# Altium integrated library 744774022_Altium_WE-PD2_rev20a.IntLib: 115 symbols (part 1 of 2)
Pins are listed as number, name and electrical type; pins without a type are passive.

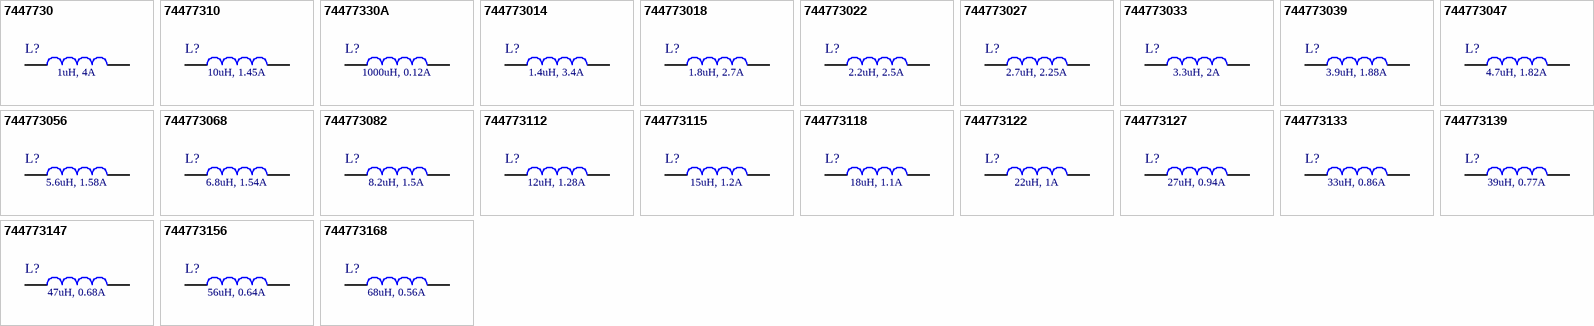
[diagram p0: symbols 7447730 to 744773168]

## 7447730
designator L?, comment 1uH, 4A
WE-PD2 SMT Power Inductor, size 4532, 1uH, 4A; Manufacturer: Wurth Elektronik; Manufacturer Part Number: 7447730; Self Resonant Frequency: 110MHz; DC Resistance max.: 0.049Ohm; DC Resistance typ.: 0.014Ohm; Saturation Current: 5.72A; ComponentLink1Description: Manufacturer; ComponentLink1URL: http://www.we-online.de; ComponentLink2Description: Datasheet; ComponentLink2URL: https://www.we-online.com/catalog/datasheet/7447730.pdf; Packaging: Tape and Reel; Published Date: April 2020; Rated Current: 4A; Operating Temperature: -40 to +125degC; Size: 4532; Inductance: 1uH; Mounting Technology: SMT
footprint WE-PD2_4532
pins: 1, 2

## 74477310
designator L?, comment 10uH, 1.45A
WE-PD2 SMT Power Inductor, size 4532, 10uH, 1.45A; Manufacturer: Wurth Elektronik; Manufacturer Part Number: 74477310; Self Resonant Frequency: 37MHz; DC Resistance max.: 0.182Ohm; DC Resistance typ.: 0.118Ohm; Saturation Current: 1.74A; ComponentLink1Description: Manufacturer; ComponentLink1URL: http://www.we-online.de; ComponentLink2Description: Datasheet; ComponentLink2URL: https://www.we-online.com/catalog/datasheet/74477310.pdf; Packaging: Tape and Reel; Published Date: April 2020; Rated Current: 1.45A; Operating Temperature: -40 to +125degC; Size: 4532; Inductance: 10uH; Mounting Technology: SMT
footprint WE-PD2_4532
pins: 1, 2

## 74477330A
designator L?, comment 1000uH, 0.12A
WE-PD2 SMT Power Inductor, size 4532, 1000uH, 0.12A; Manufacturer: Wurth Elektronik; Manufacturer Part Number: 74477330A; Self Resonant Frequency: 3.5MHz; DC Resistance max.: 15Ohm; DC Resistance typ.: 12.5Ohm; Saturation Current: 0.18A; ComponentLink1Description: Manufacturer; ComponentLink1URL: http://www.we-online.de; ComponentLink2Description: Datasheet; ComponentLink2URL: https://www.we-online.com/catalog/datasheet/74477330A.pdf; Packaging: Tape and Reel; Published Date: April 2020; Rated Current: 0.12A; Operating Temperature: -40 to +125degC; Size: 4532; Inductance: 1000uH; Mounting Technology: SMT
footprint WE-PD2_4532
pins: 1, 2

## 744773014
designator L?, comment 1.4uH, 3.4A
WE-PD2 SMT Power Inductor, size 4532, 1.4uH, 3.4A; Manufacturer: Wurth Elektronik; Manufacturer Part Number: 744773014; Self Resonant Frequency: 103MHz; DC Resistance max.: 0.056Ohm; DC Resistance typ.: 0.022Ohm; Saturation Current: 5.04A; ComponentLink1Description: Manufacturer; ComponentLink1URL: http://www.we-online.de; ComponentLink2Description: Datasheet; ComponentLink2URL: https://www.we-online.com/catalog/datasheet/744773014.pdf; Packaging: Tape and Reel; Published Date: April 2020; Rated Current: 3.4A; Operating Temperature: -40 to +125degC; Size: 4532; Inductance: 1.4uH; Mounting Technology: SMT
footprint WE-PD2_4532
pins: 1, 2

## 744773018
designator L?, comment 1.8uH, 2.7A
WE-PD2 SMT Power Inductor, size 4532, 1.8uH, 2.7A; Manufacturer: Wurth Elektronik; Manufacturer Part Number: 744773018; Self Resonant Frequency: 95MHz; DC Resistance max.: 0.064Ohm; DC Resistance typ.: 0.028Ohm; Saturation Current: 3.6A; ComponentLink1Description: Manufacturer; ComponentLink1URL: http://www.we-online.de; ComponentLink2Description: Datasheet; ComponentLink2URL: https://www.we-online.com/catalog/datasheet/744773018.pdf; Packaging: Tape and Reel; Published Date: April 2020; Rated Current: 2.7A; Operating Temperature: -40 to +125degC; Size: 4532; Inductance: 1.8uH; Mounting Technology: SMT
footprint WE-PD2_4532
pins: 1, 2

## 744773022
designator L?, comment 2.2uH, 2.5A
WE-PD2 SMT Power Inductor, size 4532, 2.2uH, 2.5A; Manufacturer: Wurth Elektronik; Manufacturer Part Number: 744773022; Self Resonant Frequency: 85MHz; DC Resistance max.: 0.071Ohm; DC Resistance typ.: 0.034Ohm; Saturation Current: 3.38A; ComponentLink1Description: Manufacturer; ComponentLink1URL: http://www.we-online.de; ComponentLink2Description: Datasheet; ComponentLink2URL: https://www.we-online.com/catalog/datasheet/744773022.pdf; Packaging: Tape and Reel; Published Date: April 2020; Rated Current: 2.5A; Operating Temperature: -40 to +125degC; Size: 4532; Inductance: 2.2uH; Mounting Technology: SMT
footprint WE-PD2_4532
pins: 1, 2

## 744773027
designator L?, comment 2.7uH, 2.25A
WE-PD2 SMT Power Inductor, size 4532, 2.7uH, 2.25A; Manufacturer: Wurth Elektronik; Manufacturer Part Number: 744773027; Self Resonant Frequency: 72MHz; DC Resistance max.: 0.079Ohm; DC Resistance typ.: 0.039Ohm; Saturation Current: 2.97A; ComponentLink1Description: Manufacturer; ComponentLink1URL: http://www.we-online.de; ComponentLink2Description: Datasheet; ComponentLink2URL: https://www.we-online.com/catalog/datasheet/744773027.pdf; Packaging: Tape and Reel; Published Date: April 2020; Rated Current: 2.25A; Operating Temperature: -40 to +125degC; Size: 4532; Inductance: 2.7uH; Mounting Technology: SMT
footprint WE-PD2_4532
pins: 1, 2

## 744773033
designator L?, comment 3.3uH, 2A
WE-PD2 SMT Power Inductor, size 4532, 3.3uH, 2A; Manufacturer: Wurth Elektronik; Manufacturer Part Number: 744773033; Self Resonant Frequency: 65MHz; DC Resistance max.: 0.086Ohm; DC Resistance typ.: 0.041Ohm; Saturation Current: 2.88A; ComponentLink1Description: Manufacturer; ComponentLink1URL: http://www.we-online.de; ComponentLink2Description: Datasheet; ComponentLink2URL: https://www.we-online.com/catalog/datasheet/744773033.pdf; Packaging: Tape and Reel; Published Date: April 2020; Rated Current: 2A; Operating Temperature: -40 to +125degC; Size: 4532; Inductance: 3.3uH; Mounting Technology: SMT
footprint WE-PD2_4532
pins: 1, 2

## 744773039
designator L?, comment 3.9uH, 1.88A
WE-PD2 SMT Power Inductor, size 4532, 3.9uH, 1.88A; Manufacturer: Wurth Elektronik; Manufacturer Part Number: 744773039; Self Resonant Frequency: 61MHz; DC Resistance max.: 0.094Ohm; DC Resistance typ.: 0.054Ohm; Saturation Current: 2.57A; ComponentLink1Description: Manufacturer; ComponentLink1URL: http://www.we-online.de; ComponentLink2Description: Datasheet; ComponentLink2URL: https://www.we-online.com/catalog/datasheet/744773039.pdf; Packaging: Tape and Reel; Published Date: April 2020; Rated Current: 1.88A; Operating Temperature: -40 to +125degC; Size: 4532; Inductance: 3.9uH; Mounting Technology: SMT
footprint WE-PD2_4532
pins: 1, 2

## 744773047
designator L?, comment 4.7uH, 1.82A
WE-PD2 SMT Power Inductor, size 4532, 4.7uH, 1.82A; Manufacturer: Wurth Elektronik; Manufacturer Part Number: 744773047; Self Resonant Frequency: 50MHz; DC Resistance max.: 0.11Ohm; DC Resistance typ.: 0.059Ohm; Saturation Current: 2.46A; ComponentLink1Description: Manufacturer; ComponentLink1URL: http://www.we-online.de; ComponentLink2Description: Datasheet; ComponentLink2URL: https://www.we-online.com/catalog/datasheet/744773047.pdf; Packaging: Tape and Reel; Published Date: April 2020; Rated Current: 1.82A; Operating Temperature: -40 to +125degC; Size: 4532; Inductance: 4.7uH; Mounting Technology: SMT
footprint WE-PD2_4532
pins: 1, 2

## 744773056
designator L?, comment 5.6uH, 1.58A
WE-PD2 SMT Power Inductor, size 4532, 5.6uH, 1.58A; Manufacturer: Wurth Elektronik; Manufacturer Part Number: 744773056; Self Resonant Frequency: 48MHz; DC Resistance max.: 0.126Ohm; DC Resistance typ.: 0.069Ohm; Saturation Current: 2.43A; ComponentLink1Description: Manufacturer; ComponentLink1URL: http://www.we-online.de; ComponentLink2Description: Datasheet; ComponentLink2URL: https://www.we-online.com/catalog/datasheet/744773056.pdf; Packaging: Tape and Reel; Published Date: April 2020; Rated Current: 1.58A; Operating Temperature: -40 to +125degC; Size: 4532; Inductance: 5.6uH; Mounting Technology: SMT
footprint WE-PD2_4532
pins: 1, 2

## 744773068
designator L?, comment 6.8uH, 1.54A
WE-PD2 SMT Power Inductor, size 4532, 6.8uH, 1.54A; Manufacturer: Wurth Elektronik; Manufacturer Part Number: 744773068; Self Resonant Frequency: 41MHz; DC Resistance max.: 0.131Ohm; DC Resistance typ.: 0.076Ohm; Saturation Current: 2.1A; ComponentLink1Description: Manufacturer; ComponentLink1URL: http://www.we-online.de; ComponentLink2Description: Datasheet; ComponentLink2URL: https://www.we-online.com/catalog/datasheet/744773068.pdf; Packaging: Tape and Reel; Published Date: April 2020; Rated Current: 1.54A; Operating Temperature: -40 to +125degC; Size: 4532; Inductance: 6.8uH; Mounting Technology: SMT
footprint WE-PD2_4532
pins: 1, 2

## 744773082
designator L?, comment 8.2uH, 1.5A
WE-PD2 SMT Power Inductor, size 4532, 8.2uH, 1.5A; Manufacturer: Wurth Elektronik; Manufacturer Part Number: 744773082; Self Resonant Frequency: 38MHz; DC Resistance max.: 0.146Ohm; DC Resistance typ.: 0.116Ohm; Saturation Current: 1.8A; ComponentLink1Description: Manufacturer; ComponentLink1URL: http://www.we-online.de; ComponentLink2Description: Datasheet; ComponentLink2URL: https://www.we-online.com/catalog/datasheet/744773082.pdf; Packaging: Tape and Reel; Published Date: April 2020; Rated Current: 1.5A; Operating Temperature: -40 to +125degC; Size: 4532; Inductance: 8.2uH; Mounting Technology: SMT
footprint WE-PD2_4532
pins: 1, 2

## 744773112
designator L?, comment 12uH, 1.28A
WE-PD2 SMT Power Inductor, size 4532, 12uH, 1.28A; Manufacturer: Wurth Elektronik; Manufacturer Part Number: 744773112; Self Resonant Frequency: 32MHz; DC Resistance max.: 0.21Ohm; DC Resistance typ.: 0.156Ohm; Saturation Current: 1.62A; ComponentLink1Description: Manufacturer; ComponentLink1URL: http://www.we-online.de; ComponentLink2Description: Datasheet; ComponentLink2URL: https://www.we-online.com/catalog/datasheet/744773112.pdf; Packaging: Tape and Reel; Published Date: April 2020; Rated Current: 1.28A; Operating Temperature: -40 to +125degC; Size: 4532; Inductance: 12uH; Mounting Technology: SMT
footprint WE-PD2_4532
pins: 1, 2

## 744773115
designator L?, comment 15uH, 1.2A
WE-PD2 SMT Power Inductor, size 4532, 15uH, 1.2A; Manufacturer: Wurth Elektronik; Manufacturer Part Number: 744773115; Self Resonant Frequency: 26MHz; DC Resistance max.: 0.235Ohm; DC Resistance typ.: 0.204Ohm; Saturation Current: 1.46A; ComponentLink1Description: Manufacturer; ComponentLink1URL: http://www.we-online.de; ComponentLink2Description: Datasheet; ComponentLink2URL: https://www.we-online.com/catalog/datasheet/744773115.pdf; Packaging: Tape and Reel; Published Date: April 2020; Rated Current: 1.2A; Operating Temperature: -40 to +125degC; Size: 4532; Inductance: 15uH; Mounting Technology: SMT
footprint WE-PD2_4532
pins: 1, 2

## 744773118
designator L?, comment 18uH, 1.1A
WE-PD2 SMT Power Inductor, size 4532, 18uH, 1.1A; Manufacturer: Wurth Elektronik; Manufacturer Part Number: 744773118; Self Resonant Frequency: 23MHz; DC Resistance max.: 0.338Ohm; DC Resistance typ.: 0.225Ohm; Saturation Current: 1.29A; ComponentLink1Description: Manufacturer; ComponentLink1URL: http://www.we-online.de; ComponentLink2Description: Datasheet; ComponentLink2URL: https://www.we-online.com/catalog/datasheet/744773118.pdf; Packaging: Tape and Reel; Published Date: April 2020; Rated Current: 1.1A; Operating Temperature: -40 to +125degC; Size: 4532; Inductance: 18uH; Mounting Technology: SMT
footprint WE-PD2_4532
pins: 1, 2

## 744773122
designator L?, comment 22uH, 1A
WE-PD2 SMT Power Inductor, size 4532, 22uH, 1A; Manufacturer: Wurth Elektronik; Manufacturer Part Number: 744773122; Self Resonant Frequency: 20MHz; DC Resistance max.: 0.37Ohm; DC Resistance typ.: 0.261Ohm; Saturation Current: 1.22A; ComponentLink1Description: Manufacturer; ComponentLink1URL: http://www.we-online.de; ComponentLink2Description: Datasheet; ComponentLink2URL: https://www.we-online.com/catalog/datasheet/744773122.pdf; Packaging: Tape and Reel; Published Date: April 2020; Rated Current: 1A; Operating Temperature: -40 to +125degC; Size: 4532; Inductance: 22uH; Mounting Technology: SMT
footprint WE-PD2_4532
pins: 1, 2

## 744773127
designator L?, comment 27uH, 0.94A
WE-PD2 SMT Power Inductor, size 4532, 27uH, 0.94A; Manufacturer: Wurth Elektronik; Manufacturer Part Number: 744773127; Self Resonant Frequency: 21MHz; DC Resistance max.: 0.522Ohm; DC Resistance typ.: 0.328Ohm; Saturation Current: 1A; ComponentLink1Description: Manufacturer; ComponentLink1URL: http://www.we-online.de; ComponentLink2Description: Datasheet; ComponentLink2URL: https://www.we-online.com/catalog/datasheet/744773127.pdf; Packaging: Tape and Reel; Published Date: April 2020; Rated Current: 0.94A; Operating Temperature: -40 to +125degC; Size: 4532; Inductance: 27uH; Mounting Technology: SMT
footprint WE-PD2_4532
pins: 1, 2

## 744773133
designator L?, comment 33uH, 0.86A
WE-PD2 SMT Power Inductor, size 4532, 33uH, 0.86A; Manufacturer: Wurth Elektronik; Manufacturer Part Number: 744773133; Self Resonant Frequency: 20MHz; DC Resistance max.: 0.54Ohm; DC Resistance typ.: 0.37Ohm; Saturation Current: 0.9A; ComponentLink1Description: Manufacturer; ComponentLink1URL: http://www.we-online.de; ComponentLink2Description: Datasheet; ComponentLink2URL: https://www.we-online.com/catalog/datasheet/744773133.pdf; Packaging: Tape and Reel; Published Date: April 2020; Rated Current: 0.86A; Operating Temperature: -40 to +125degC; Size: 4532; Inductance: 33uH; Mounting Technology: SMT
footprint WE-PD2_4532
pins: 1, 2

## 744773139
designator L?, comment 39uH, 0.77A
WE-PD2 SMT Power Inductor, size 4532, 39uH, 0.77A; Manufacturer: Wurth Elektronik; Manufacturer Part Number: 744773139; Self Resonant Frequency: 15MHz; DC Resistance max.: 0.587Ohm; DC Resistance typ.: 0.418Ohm; Saturation Current: 0.87A; ComponentLink1Description: Manufacturer; ComponentLink1URL: http://www.we-online.de; ComponentLink2Description: Datasheet; ComponentLink2URL: https://www.we-online.com/catalog/datasheet/744773139.pdf; Packaging: Tape and Reel; Published Date: April 2020; Rated Current: 0.77A; Operating Temperature: -40 to +125degC; Size: 4532; Inductance: 39uH; Mounting Technology: SMT
footprint WE-PD2_4532
pins: 1, 2

## 744773147
designator L?, comment 47uH, 0.68A
WE-PD2 SMT Power Inductor, size 4532, 47uH, 0.68A; Manufacturer: Wurth Elektronik; Manufacturer Part Number: 744773147; Self Resonant Frequency: 17MHz; DC Resistance max.: 0.844Ohm; DC Resistance typ.: 0.523Ohm; Saturation Current: 0.77A; ComponentLink1Description: Manufacturer; ComponentLink1URL: http://www.we-online.de; ComponentLink2Description: Datasheet; ComponentLink2URL: https://www.we-online.com/catalog/datasheet/744773147.pdf; Packaging: Tape and Reel; Published Date: April 2020; Rated Current: 0.68A; Operating Temperature: -40 to +125degC; Size: 4532; Inductance: 47uH; Mounting Technology: SMT
footprint WE-PD2_4532
pins: 1, 2

## 744773156
designator L?, comment 56uH, 0.64A
WE-PD2 SMT Power Inductor, size 4532, 56uH, 0.64A; Manufacturer: Wurth Elektronik; Manufacturer Part Number: 744773156; Self Resonant Frequency: 16MHz; DC Resistance max.: 0.937Ohm; DC Resistance typ.: 0.714Ohm; Saturation Current: 0.75A; ComponentLink1Description: Manufacturer; ComponentLink1URL: http://www.we-online.de; ComponentLink2Description: Datasheet; ComponentLink2URL: https://www.we-online.com/catalog/datasheet/744773156.pdf; Packaging: Tape and Reel; Published Date: April 2020; Rated Current: 0.64A; Operating Temperature: -40 to +125degC; Size: 4532; Inductance: 56uH; Mounting Technology: SMT
footprint WE-PD2_4532
pins: 1, 2

## 744773168
designator L?, comment 68uH, 0.56A
WE-PD2 SMT Power Inductor, size 4532, 68uH, 0.56A; Manufacturer: Wurth Elektronik; Manufacturer Part Number: 744773168; Self Resonant Frequency: 13MHz; DC Resistance max.: 1.117Ohm; DC Resistance typ.: 0.754Ohm; Saturation Current: 0.68A; ComponentLink1Description: Manufacturer; ComponentLink1URL: http://www.we-online.de; ComponentLink2Description: Datasheet; ComponentLink2URL: https://www.we-online.com/catalog/datasheet/744773168.pdf; Packaging: Tape and Reel; Published Date: April 2020; Rated Current: 0.56A; Operating Temperature: -40 to +125degC; Size: 4532; Inductance: 68uH; Mounting Technology: SMT
footprint WE-PD2_4532
pins: 1, 2


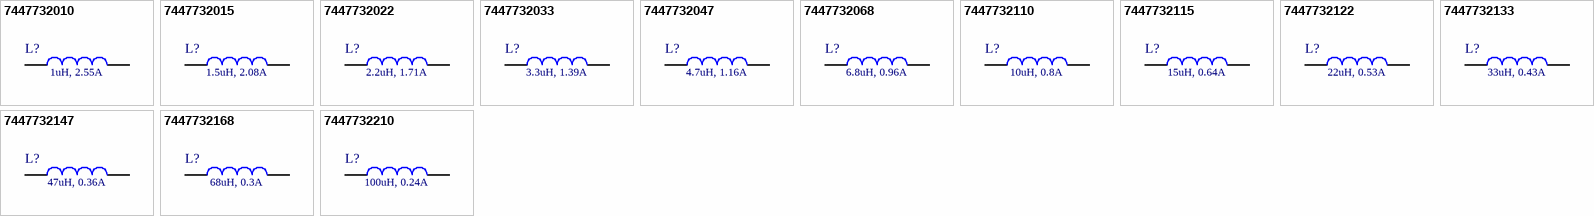
[diagram p1: symbols 7447732010 to 7447732210]

## 7447732010
designator L?, comment 1uH, 2.55A
WE-PD2 SMT Power Inductor, size 3521, 1uH, 2.55A; Manufacturer: Wurth Elektronik; Manufacturer Part Number: 7447732010; Self Resonant Frequency: 160MHz; DC Resistance max.: 0.05Ohm; DC Resistance typ.: 0.039Ohm; Saturation Current: 3.7A; ComponentLink1Description: Manufacturer; ComponentLink1URL: http://www.we-online.de; ComponentLink2Description: Datasheet; ComponentLink2URL: https://www.we-online.com/catalog/datasheet/7447732010.pdf; Packaging: Tape and Reel; Published Date: April 2020; Rated Current: 2.55A; Operating Temperature: -40 to +125degC; Size: 3521; Inductance: 1uH; Mounting Technology: SMT
footprint WE-PD2_3521
pins: 1, 2

## 7447732015
designator L?, comment 1.5uH, 2.08A
WE-PD2 SMT Power Inductor, size 3521, 1.5uH, 2.08A; Manufacturer: Wurth Elektronik; Manufacturer Part Number: 7447732015; Self Resonant Frequency: 130MHz; DC Resistance max.: 0.07Ohm; DC Resistance typ.: 0.054Ohm; Saturation Current: 3.05A; ComponentLink1Description: Manufacturer; ComponentLink1URL: http://www.we-online.de; ComponentLink2Description: Datasheet; ComponentLink2URL: https://www.we-online.com/catalog/datasheet/7447732015.pdf; Packaging: Tape and Reel; Published Date: April 2020; Rated Current: 2.08A; Operating Temperature: -40 to +125degC; Size: 3521; Inductance: 1.5uH; Mounting Technology: SMT
footprint WE-PD2_3521
pins: 1, 2

## 7447732022
designator L?, comment 2.2uH, 1.71A
WE-PD2 SMT Power Inductor, size 3521, 2.2uH, 1.71A; Manufacturer: Wurth Elektronik; Manufacturer Part Number: 7447732022; Self Resonant Frequency: 100MHz; DC Resistance max.: 0.09Ohm; DC Resistance typ.: 0.07Ohm; Saturation Current: 2.54A; ComponentLink1Description: Manufacturer; ComponentLink1URL: http://www.we-online.de; ComponentLink2Description: Datasheet; ComponentLink2URL: https://www.we-online.com/catalog/datasheet/7447732022.pdf; Packaging: Tape and Reel; Published Date: April 2020; Rated Current: 1.71A; Operating Temperature: -40 to +125degC; Size: 3521; Inductance: 2.2uH; Mounting Technology: SMT
footprint WE-PD2_3521
pins: 1, 2

## 7447732033
designator L?, comment 3.3uH, 1.39A
WE-PD2 SMT Power Inductor, size 3521, 3.3uH, 1.39A; Manufacturer: Wurth Elektronik; Manufacturer Part Number: 7447732033; Self Resonant Frequency: 80MHz; DC Resistance max.: 0.12Ohm; DC Resistance typ.: 0.091Ohm; Saturation Current: 2.09A; ComponentLink1Description: Manufacturer; ComponentLink1URL: http://www.we-online.de; ComponentLink2Description: Datasheet; ComponentLink2URL: https://www.we-online.com/catalog/datasheet/7447732033.pdf; Packaging: Tape and Reel; Published Date: April 2020; Rated Current: 1.39A; Operating Temperature: -40 to +125degC; Size: 3521; Inductance: 3.3uH; Mounting Technology: SMT
footprint WE-PD2_3521
pins: 1, 2

## 7447732047
designator L?, comment 4.7uH, 1.16A
WE-PD2 SMT Power Inductor, size 3521, 4.7uH, 1.16A; Manufacturer: Wurth Elektronik; Manufacturer Part Number: 7447732047; Self Resonant Frequency: 70MHz; DC Resistance max.: 0.16Ohm; DC Resistance typ.: 0.125Ohm; Saturation Current: 1.77A; ComponentLink1Description: Manufacturer; ComponentLink1URL: http://www.we-online.de; ComponentLink2Description: Datasheet; ComponentLink2URL: https://www.we-online.com/catalog/datasheet/7447732047.pdf; Packaging: Tape and Reel; Published Date: April 2020; Rated Current: 1.16A; Operating Temperature: -40 to +125degC; Size: 3521; Inductance: 4.7uH; Mounting Technology: SMT
footprint WE-PD2_3521
pins: 1, 2

## 7447732068
designator L?, comment 6.8uH, 0.96A
WE-PD2 SMT Power Inductor, size 3521, 6.8uH, 0.96A; Manufacturer: Wurth Elektronik; Manufacturer Part Number: 7447732068; Self Resonant Frequency: 55MHz; DC Resistance max.: 0.21Ohm; DC Resistance typ.: 0.17Ohm; Saturation Current: 1.48A; ComponentLink1Description: Manufacturer; ComponentLink1URL: http://www.we-online.de; ComponentLink2Description: Datasheet; ComponentLink2URL: https://www.we-online.com/catalog/datasheet/7447732068.pdf; Packaging: Tape and Reel; Published Date: April 2020; Rated Current: 0.96A; Operating Temperature: -40 to +125degC; Size: 3521; Inductance: 6.8uH; Mounting Technology: SMT
footprint WE-PD2_3521
pins: 1, 2

## 7447732110
designator L?, comment 10uH, 0.8A
WE-PD2 SMT Power Inductor, size 3521, 10uH, 0.8A; Manufacturer: Wurth Elektronik; Manufacturer Part Number: 7447732110; Self Resonant Frequency: 45MHz; DC Resistance max.: 0.3Ohm; DC Resistance typ.: 0.237Ohm; Saturation Current: 1.23A; ComponentLink1Description: Manufacturer; ComponentLink1URL: http://www.we-online.de; ComponentLink2Description: Datasheet; ComponentLink2URL: https://www.we-online.com/catalog/datasheet/7447732110.pdf; Packaging: Tape and Reel; Published Date: April 2020; Rated Current: 0.8A; Operating Temperature: -40 to +125degC; Size: 3521; Inductance: 10uH; Mounting Technology: SMT
footprint WE-PD2_3521
pins: 1, 2

## 7447732115
designator L?, comment 15uH, 0.64A
WE-PD2 SMT Power Inductor, size 3521, 15uH, 0.64A; Manufacturer: Wurth Elektronik; Manufacturer Part Number: 7447732115; Self Resonant Frequency: 36MHz; DC Resistance max.: 0.43Ohm; DC Resistance typ.: 0.347Ohm; Saturation Current: 1.01A; ComponentLink1Description: Manufacturer; ComponentLink1URL: http://www.we-online.de; ComponentLink2Description: Datasheet; ComponentLink2URL: https://www.we-online.com/catalog/datasheet/7447732115.pdf; Packaging: Tape and Reel; Published Date: April 2020; Rated Current: 0.64A; Operating Temperature: -40 to +125degC; Size: 3521; Inductance: 15uH; Mounting Technology: SMT
footprint WE-PD2_3521
pins: 1, 2

## 7447732122
designator L?, comment 22uH, 0.53A
WE-PD2 SMT Power Inductor, size 3521, 22uH, 0.53A; Manufacturer: Wurth Elektronik; Manufacturer Part Number: 7447732122; Self Resonant Frequency: 28MHz; DC Resistance max.: 0.7Ohm; DC Resistance typ.: 0.561Ohm; Saturation Current: 0.84A; ComponentLink1Description: Manufacturer; ComponentLink1URL: http://www.we-online.de; ComponentLink2Description: Datasheet; ComponentLink2URL: https://www.we-online.com/catalog/datasheet/7447732122.pdf; Packaging: Tape and Reel; Published Date: April 2020; Rated Current: 0.53A; Operating Temperature: -40 to +125degC; Size: 3521; Inductance: 22uH; Mounting Technology: SMT
footprint WE-PD2_3521
pins: 1, 2

## 7447732133
designator L?, comment 33uH, 0.43A
WE-PD2 SMT Power Inductor, size 3521, 33uH, 0.43A; Manufacturer: Wurth Elektronik; Manufacturer Part Number: 7447732133; Self Resonant Frequency: 24MHz; DC Resistance max.: 0.97Ohm; DC Resistance typ.: 0.778Ohm; Saturation Current: 0.7A; ComponentLink1Description: Manufacturer; ComponentLink1URL: http://www.we-online.de; ComponentLink2Description: Datasheet; ComponentLink2URL: https://www.we-online.com/catalog/datasheet/7447732133.pdf; Packaging: Tape and Reel; Published Date: April 2020; Rated Current: 0.43A; Operating Temperature: -40 to +125degC; Size: 3521; Inductance: 33uH; Mounting Technology: SMT
footprint WE-PD2_3521
pins: 1, 2

## 7447732147
designator L?, comment 47uH, 0.36A
WE-PD2 SMT Power Inductor, size 3521, 47uH, 0.36A; Manufacturer: Wurth Elektronik; Manufacturer Part Number: 7447732147; Self Resonant Frequency: 20MHz; DC Resistance max.: 1.33Ohm; DC Resistance typ.: 1.11Ohm; Saturation Current: 0.59A; ComponentLink1Description: Manufacturer; ComponentLink1URL: http://www.we-online.de; ComponentLink2Description: Datasheet; ComponentLink2URL: https://www.we-online.com/catalog/datasheet/7447732147.pdf; Packaging: Tape and Reel; Published Date: April 2020; Rated Current: 0.36A; Operating Temperature: -40 to +125degC; Size: 3521; Inductance: 47uH; Mounting Technology: SMT
footprint WE-PD2_3521
pins: 1, 2

## 7447732168
designator L?, comment 68uH, 0.3A
WE-PD2 SMT Power Inductor, size 3521, 68uH, 0.3A; Manufacturer: Wurth Elektronik; Manufacturer Part Number: 7447732168; Self Resonant Frequency: 16MHz; DC Resistance max.: 1.8Ohm; DC Resistance typ.: 1.57Ohm; Saturation Current: 0.49A; ComponentLink1Description: Manufacturer; ComponentLink1URL: http://www.we-online.de; ComponentLink2Description: Datasheet; ComponentLink2URL: https://www.we-online.com/catalog/datasheet/7447732168.pdf; Packaging: Tape and Reel; Published Date: April 2020; Rated Current: 0.3A; Operating Temperature: -40 to +125degC; Size: 3521; Inductance: 68uH; Mounting Technology: SMT
footprint WE-PD2_3521
pins: 1, 2

## 7447732210
designator L?, comment 100uH, 0.24A
WE-PD2 SMT Power Inductor, size 3521, 100uH, 0.24A; Manufacturer: Wurth Elektronik; Manufacturer Part Number: 7447732210; Self Resonant Frequency: 12MHz; DC Resistance max.: 2.8Ohm; DC Resistance typ.: 2.42Ohm; Saturation Current: 0.41A; ComponentLink1Description: Manufacturer; ComponentLink1URL: http://www.we-online.de; ComponentLink2Description: Datasheet; ComponentLink2URL: https://www.we-online.com/catalog/datasheet/7447732210.pdf; Packaging: Tape and Reel; Published Date: April 2020; Rated Current: 0.24A; Operating Temperature: -40 to +125degC; Size: 3521; Inductance: 100uH; Mounting Technology: SMT
footprint WE-PD2_3521
pins: 1, 2


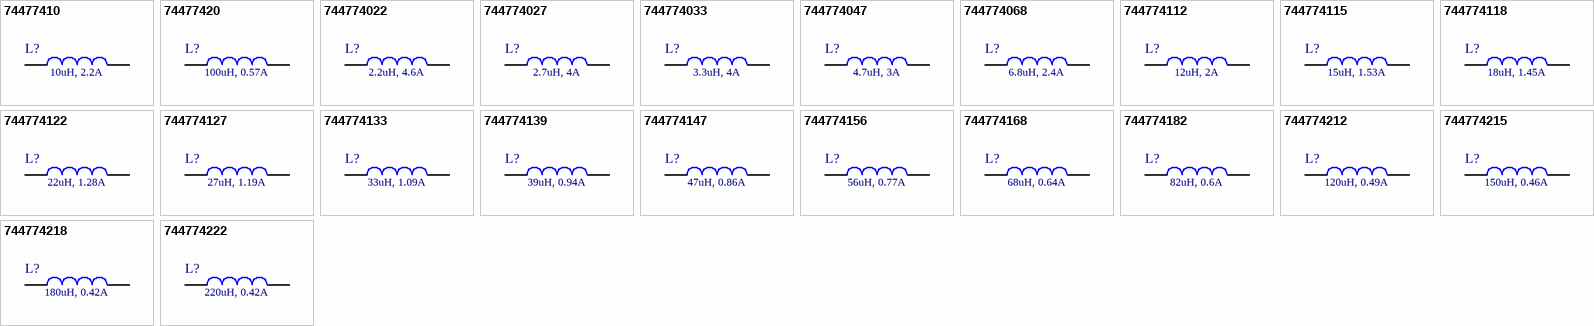
[diagram p2: symbols 74477410 to 744774222]

## 74477410
designator L?, comment 10uH, 2.2A
WE-PD2 SMT Power Inductor, size 5848, 10uH, 2.2A; Manufacturer: Wurth Elektronik; Manufacturer Part Number: 74477410; Self Resonant Frequency: 26MHz; DC Resistance max.: 0.1Ohm; DC Resistance typ.: 0.078Ohm; Saturation Current: 2.5A; ComponentLink1Description: Manufacturer; ComponentLink1URL: http://www.we-online.de; ComponentLink2Description: Datasheet; ComponentLink2URL: https://www.we-online.com/catalog/datasheet/74477410.pdf; Packaging: Tape and Reel; Published Date: April 2020; Rated Current: 2.2A; Operating Temperature: -40 to +125degC; Size: 5848; Inductance: 10uH; Mounting Technology: SMT
footprint WE-PD2_5848
pins: 1, 2

## 74477420
designator L?, comment 100uH, 0.57A
WE-PD2 SMT Power Inductor, size 5848, 100uH, 0.57A; Manufacturer: Wurth Elektronik; Manufacturer Part Number: 74477420; Self Resonant Frequency: 7.5MHz; DC Resistance max.: 0.65Ohm; DC Resistance typ.: 0.51Ohm; Saturation Current: 0.68A; ComponentLink1Description: Manufacturer; ComponentLink1URL: http://www.we-online.de; ComponentLink2Description: Datasheet; ComponentLink2URL: https://www.we-online.com/catalog/datasheet/74477420.pdf; Packaging: Tape and Reel; Published Date: April 2020; Rated Current: 0.57A; Operating Temperature: -40 to +125degC; Size: 5848; Inductance: 100uH; Mounting Technology: SMT
footprint WE-PD2_5848
pins: 1, 2

## 744774022
designator L?, comment 2.2uH, 4.6A
WE-PD2 SMT Power Inductor, size 5848, 2.2uH, 4.6A; Manufacturer: Wurth Elektronik; Manufacturer Part Number: 744774022; Self Resonant Frequency: 54MHz; DC Resistance max.: 0.041Ohm; DC Resistance typ.: 0.026Ohm; Saturation Current: 8.2A; ComponentLink1Description: Manufacturer; ComponentLink1URL: http://www.we-online.de; ComponentLink2Description: Datasheet; ComponentLink2URL: https://www.we-online.com/catalog/datasheet/744774022.pdf; Packaging: Tape and Reel; Published Date: April 2020; Rated Current: 4.6A; Operating Temperature: -40 to +125degC; Size: 5848; Inductance: 2.2uH; Mounting Technology: SMT
footprint WE-PD2_5848
pins: 1, 2

## 744774027
designator L?, comment 2.7uH, 4A
WE-PD2 SMT Power Inductor, size 5848, 2.7uH, 4A; Manufacturer: Wurth Elektronik; Manufacturer Part Number: 744774027; Self Resonant Frequency: 50MHz; DC Resistance max.: 0.045Ohm; DC Resistance typ.: 0.032Ohm; Saturation Current: 8A; ComponentLink1Description: Manufacturer; ComponentLink1URL: http://www.we-online.de; ComponentLink2Description: Datasheet; ComponentLink2URL: https://www.we-online.com/catalog/datasheet/744774027.pdf; Packaging: Tape and Reel; Published Date: April 2020; Rated Current: 4A; Operating Temperature: -40 to +125degC; Size: 5848; Inductance: 2.7uH; Mounting Technology: SMT
footprint WE-PD2_5848
pins: 1, 2

## 744774033
designator L?, comment 3.3uH, 4A
WE-PD2 SMT Power Inductor, size 5848, 3.3uH, 4A; Manufacturer: Wurth Elektronik; Manufacturer Part Number: 744774033; Self Resonant Frequency: 43MHz; DC Resistance max.: 0.06Ohm; DC Resistance typ.: 0.042Ohm; Saturation Current: 7.5A; ComponentLink1Description: Manufacturer; ComponentLink1URL: http://www.we-online.de; ComponentLink2Description: Datasheet; ComponentLink2URL: https://www.we-online.com/catalog/datasheet/744774033.pdf; Packaging: Tape and Reel; Published Date: April 2020; Rated Current: 4A; Operating Temperature: -40 to +125degC; Size: 5848; Inductance: 3.3uH; Mounting Technology: SMT
footprint WE-PD2_5848
pins: 1, 2

## 744774047
designator L?, comment 4.7uH, 3A
WE-PD2 SMT Power Inductor, size 5848, 4.7uH, 3A; Manufacturer: Wurth Elektronik; Manufacturer Part Number: 744774047; Self Resonant Frequency: 33MHz; DC Resistance max.: 0.071Ohm; DC Resistance typ.: 0.056Ohm; Saturation Current: 5.5A; ComponentLink1Description: Manufacturer; ComponentLink1URL: http://www.we-online.de; ComponentLink2Description: Datasheet; ComponentLink2URL: https://www.we-online.com/catalog/datasheet/744774047.pdf; Packaging: Tape and Reel; Published Date: April 2020; Rated Current: 3A; Operating Temperature: -40 to +125degC; Size: 5848; Inductance: 4.7uH; Mounting Technology: SMT
footprint WE-PD2_5848
pins: 1, 2

## 744774068
designator L?, comment 6.8uH, 2.4A
WE-PD2 SMT Power Inductor, size 5848, 6.8uH, 2.4A; Manufacturer: Wurth Elektronik; Manufacturer Part Number: 744774068; Self Resonant Frequency: 28MHz; DC Resistance max.: 0.082Ohm; DC Resistance typ.: 0.071Ohm; Saturation Current: 5A; ComponentLink1Description: Manufacturer; ComponentLink1URL: http://www.we-online.de; ComponentLink2Description: Datasheet; ComponentLink2URL: https://www.we-online.com/catalog/datasheet/744774068.pdf; Packaging: Tape and Reel; Published Date: April 2020; Rated Current: 2.4A; Operating Temperature: -40 to +125degC; Size: 5848; Inductance: 6.8uH; Mounting Technology: SMT
footprint WE-PD2_5848
pins: 1, 2

## 744774112
designator L?, comment 12uH, 2A
WE-PD2 SMT Power Inductor, size 5848, 12uH, 2A; Manufacturer: Wurth Elektronik; Manufacturer Part Number: 744774112; Self Resonant Frequency: 24MHz; DC Resistance max.: 0.11Ohm; DC Resistance typ.: 0.082Ohm; Saturation Current: 1.94A; ComponentLink1Description: Manufacturer; ComponentLink1URL: http://www.we-online.de; ComponentLink2Description: Datasheet; ComponentLink2URL: https://www.we-online.com/catalog/datasheet/744774112.pdf; Packaging: Tape and Reel; Published Date: April 2020; Rated Current: 2A; Operating Temperature: -40 to +125degC; Size: 5848; Inductance: 12uH; Mounting Technology: SMT
footprint WE-PD2_5848
pins: 1, 2

## 744774115
designator L?, comment 15uH, 1.53A
WE-PD2 SMT Power Inductor, size 5848, 15uH, 1.53A; Manufacturer: Wurth Elektronik; Manufacturer Part Number: 744774115; Self Resonant Frequency: 23MHz; DC Resistance max.: 0.14Ohm; DC Resistance typ.: 0.089Ohm; Saturation Current: 1.9A; ComponentLink1Description: Manufacturer; ComponentLink1URL: http://www.we-online.de; ComponentLink2Description: Datasheet; ComponentLink2URL: https://www.we-online.com/catalog/datasheet/744774115.pdf; Packaging: Tape and Reel; Published Date: April 2020; Rated Current: 1.53A; Operating Temperature: -40 to +125degC; Size: 5848; Inductance: 15uH; Mounting Technology: SMT
footprint WE-PD2_5848
pins: 1, 2

## 744774118
designator L?, comment 18uH, 1.45A
WE-PD2 SMT Power Inductor, size 5848, 18uH, 1.45A; Manufacturer: Wurth Elektronik; Manufacturer Part Number: 744774118; Self Resonant Frequency: 21MHz; DC Resistance max.: 0.15Ohm; DC Resistance typ.: 0.104Ohm; Saturation Current: 1.69A; ComponentLink1Description: Manufacturer; ComponentLink1URL: http://www.we-online.de; ComponentLink2Description: Datasheet; ComponentLink2URL: https://www.we-online.com/catalog/datasheet/744774118.pdf; Packaging: Tape and Reel; Published Date: April 2020; Rated Current: 1.45A; Operating Temperature: -40 to +125degC; Size: 5848; Inductance: 18uH; Mounting Technology: SMT
footprint WE-PD2_5848
pins: 1, 2

## 744774122
designator L?, comment 22uH, 1.28A
WE-PD2 SMT Power Inductor, size 5848, 22uH, 1.28A; Manufacturer: Wurth Elektronik; Manufacturer Part Number: 744774122; Self Resonant Frequency: 16MHz; DC Resistance max.: 0.18Ohm; DC Resistance typ.: 0.109Ohm; Saturation Current: 1.53A; ComponentLink1Description: Manufacturer; ComponentLink1URL: http://www.we-online.de; ComponentLink2Description: Datasheet; ComponentLink2URL: https://www.we-online.com/catalog/datasheet/744774122.pdf; Packaging: Tape and Reel; Published Date: April 2020; Rated Current: 1.28A; Operating Temperature: -40 to +125degC; Size: 5848; Inductance: 22uH; Mounting Technology: SMT
footprint WE-PD2_5848
pins: 1, 2

## 744774127
designator L?, comment 27uH, 1.19A
WE-PD2 SMT Power Inductor, size 5848, 27uH, 1.19A; Manufacturer: Wurth Elektronik; Manufacturer Part Number: 744774127; Self Resonant Frequency: 15MHz; DC Resistance max.: 0.2Ohm; DC Resistance typ.: 0.133Ohm; Saturation Current: 1.4A; ComponentLink1Description: Manufacturer; ComponentLink1URL: http://www.we-online.de; ComponentLink2Description: Datasheet; ComponentLink2URL: https://www.we-online.com/catalog/datasheet/744774127.pdf; Packaging: Tape and Reel; Published Date: April 2020; Rated Current: 1.19A; Operating Temperature: -40 to +125degC; Size: 5848; Inductance: 27uH; Mounting Technology: SMT
footprint WE-PD2_5848
pins: 1, 2

## 744774133
designator L?, comment 33uH, 1.09A
WE-PD2 SMT Power Inductor, size 5848, 33uH, 1.09A; Manufacturer: Wurth Elektronik; Manufacturer Part Number: 744774133; Self Resonant Frequency: 14MHz; DC Resistance max.: 0.23Ohm; DC Resistance typ.: 0.15Ohm; Saturation Current: 1.17A; ComponentLink1Description: Manufacturer; ComponentLink1URL: http://www.we-online.de; ComponentLink2Description: Datasheet; ComponentLink2URL: https://www.we-online.com/catalog/datasheet/744774133.pdf; Packaging: Tape and Reel; Published Date: April 2020; Rated Current: 1.09A; Operating Temperature: -40 to +125degC; Size: 5848; Inductance: 33uH; Mounting Technology: SMT
footprint WE-PD2_5848
pins: 1, 2

## 744774139
designator L?, comment 39uH, 0.94A
WE-PD2 SMT Power Inductor, size 5848, 39uH, 0.94A; Manufacturer: Wurth Elektronik; Manufacturer Part Number: 744774139; Self Resonant Frequency: 12MHz; DC Resistance max.: 0.32Ohm; DC Resistance typ.: 0.215Ohm; Saturation Current: 1.1A; ComponentLink1Description: Manufacturer; ComponentLink1URL: http://www.we-online.de; ComponentLink2Description: Datasheet; ComponentLink2URL: https://www.we-online.com/catalog/datasheet/744774139.pdf; Packaging: Tape and Reel; Published Date: April 2020; Rated Current: 0.94A; Operating Temperature: -40 to +125degC; Size: 5848; Inductance: 39uH; Mounting Technology: SMT
footprint WE-PD2_5848
pins: 1, 2

## 744774147
designator L?, comment 47uH, 0.86A
WE-PD2 SMT Power Inductor, size 5848, 47uH, 0.86A; Manufacturer: Wurth Elektronik; Manufacturer Part Number: 744774147; Self Resonant Frequency: 11.5MHz; DC Resistance max.: 0.37Ohm; DC Resistance typ.: 0.26Ohm; Saturation Current: 1A; ComponentLink1Description: Manufacturer; ComponentLink1URL: http://www.we-online.de; ComponentLink2Description: Datasheet; ComponentLink2URL: https://www.we-online.com/catalog/datasheet/744774147.pdf; Packaging: Tape and Reel; Published Date: April 2020; Rated Current: 0.86A; Operating Temperature: -40 to +125degC; Size: 5848; Inductance: 47uH; Mounting Technology: SMT
footprint WE-PD2_5848
pins: 1, 2

## 744774156
designator L?, comment 56uH, 0.77A
WE-PD2 SMT Power Inductor, size 5848, 56uH, 0.77A; Manufacturer: Wurth Elektronik; Manufacturer Part Number: 744774156; Self Resonant Frequency: 10MHz; DC Resistance max.: 0.42Ohm; DC Resistance typ.: 0.298Ohm; Saturation Current: 0.9A; ComponentLink1Description: Manufacturer; ComponentLink1URL: http://www.we-online.de; ComponentLink2Description: Datasheet; ComponentLink2URL: https://www.we-online.com/catalog/datasheet/744774156.pdf; Packaging: Tape and Reel; Published Date: April 2020; Rated Current: 0.77A; Operating Temperature: -40 to +125degC; Size: 5848; Inductance: 56uH; Mounting Technology: SMT
footprint WE-PD2_5848
pins: 1, 2

## 744774168
designator L?, comment 68uH, 0.64A
WE-PD2 SMT Power Inductor, size 5848, 68uH, 0.64A; Manufacturer: Wurth Elektronik; Manufacturer Part Number: 744774168; Self Resonant Frequency: 10MHz; DC Resistance max.: 0.46Ohm; DC Resistance typ.: 0.313Ohm; Saturation Current: 0.86A; ComponentLink1Description: Manufacturer; ComponentLink1URL: http://www.we-online.de; ComponentLink2Description: Datasheet; ComponentLink2URL: https://www.we-online.com/catalog/datasheet/744774168.pdf; Packaging: Tape and Reel; Published Date: April 2020; Rated Current: 0.64A; Operating Temperature: -40 to +125degC; Size: 5848; Inductance: 68uH; Mounting Technology: SMT
footprint WE-PD2_5848
pins: 1, 2

## 744774182
designator L?, comment 82uH, 0.6A
WE-PD2 SMT Power Inductor, size 5848, 82uH, 0.6A; Manufacturer: Wurth Elektronik; Manufacturer Part Number: 744774182; Self Resonant Frequency: 8MHz; DC Resistance max.: 0.6Ohm; DC Resistance typ.: 0.475Ohm; Saturation Current: 0.72A; ComponentLink1Description: Manufacturer; ComponentLink1URL: http://www.we-online.de; ComponentLink2Description: Datasheet; ComponentLink2URL: https://www.we-online.com/catalog/datasheet/744774182.pdf; Packaging: Tape and Reel; Published Date: April 2020; Rated Current: 0.6A; Operating Temperature: -40 to +125degC; Size: 5848; Inductance: 82uH; Mounting Technology: SMT
footprint WE-PD2_5848
pins: 1, 2

## 744774212
designator L?, comment 120uH, 0.49A
WE-PD2 SMT Power Inductor, size 5848, 120uH, 0.49A; Manufacturer: Wurth Elektronik; Manufacturer Part Number: 744774212; Self Resonant Frequency: 7MHz; DC Resistance max.: 0.93Ohm; DC Resistance typ.: 0.66Ohm; Saturation Current: 0.63A; ComponentLink1Description: Manufacturer; ComponentLink1URL: http://www.we-online.de; ComponentLink2Description: Datasheet; ComponentLink2URL: https://www.we-online.com/catalog/datasheet/744774212.pdf; Packaging: Tape and Reel; Published Date: April 2020; Rated Current: 0.49A; Operating Temperature: -40 to +125degC; Size: 5848; Inductance: 120uH; Mounting Technology: SMT
footprint WE-PD2_5848
pins: 1, 2

## 744774215
designator L?, comment 150uH, 0.46A
WE-PD2 SMT Power Inductor, size 5848, 150uH, 0.46A; Manufacturer: Wurth Elektronik; Manufacturer Part Number: 744774215; Self Resonant Frequency: 6.5MHz; DC Resistance max.: 1.1Ohm; DC Resistance typ.: 0.72Ohm; Saturation Current: 0.54A; ComponentLink1Description: Manufacturer; ComponentLink1URL: http://www.we-online.de; ComponentLink2Description: Datasheet; ComponentLink2URL: https://www.we-online.com/catalog/datasheet/744774215.pdf; Packaging: Tape and Reel; Published Date: April 2020; Rated Current: 0.46A; Operating Temperature: -40 to +125degC; Size: 5848; Inductance: 150uH; Mounting Technology: SMT
footprint WE-PD2_5848
pins: 1, 2

## 744774218
designator L?, comment 180uH, 0.42A
WE-PD2 SMT Power Inductor, size 5848, 180uH, 0.42A; Manufacturer: Wurth Elektronik; Manufacturer Part Number: 744774218; Self Resonant Frequency: 5.8MHz; DC Resistance max.: 1.38Ohm; DC Resistance typ.: 0.85Ohm; Saturation Current: 0.5A; ComponentLink1Description: Manufacturer; ComponentLink1URL: http://www.we-online.de; ComponentLink2Description: Datasheet; ComponentLink2URL: https://www.we-online.com/catalog/datasheet/744774218.pdf; Packaging: Tape and Reel; Published Date: April 2020; Rated Current: 0.42A; Operating Temperature: -40 to +125degC; Size: 5848; Inductance: 180uH; Mounting Technology: SMT
footprint WE-PD2_5848
pins: 1, 2

## 744774222
designator L?, comment 220uH, 0.42A
WE-PD2 SMT Power Inductor, size 5848, 220uH, 0.42A; Manufacturer: Wurth Elektronik; Manufacturer Part Number: 744774222; Self Resonant Frequency: 5MHz; DC Resistance max.: 1.57Ohm; DC Resistance typ.: 0.945Ohm; Saturation Current: 0.47A; ComponentLink1Description: Manufacturer; ComponentLink1URL: http://www.we-online.de; ComponentLink2Description: Datasheet; ComponentLink2URL: https://www.we-online.com/catalog/datasheet/744774222.pdf; Packaging: Tape and Reel; Published Date: April 2020; Rated Current: 0.42A; Operating Temperature: -40 to +125degC; Size: 5848; Inductance: 220uH; Mounting Technology: SMT
footprint WE-PD2_5848
pins: 1, 2


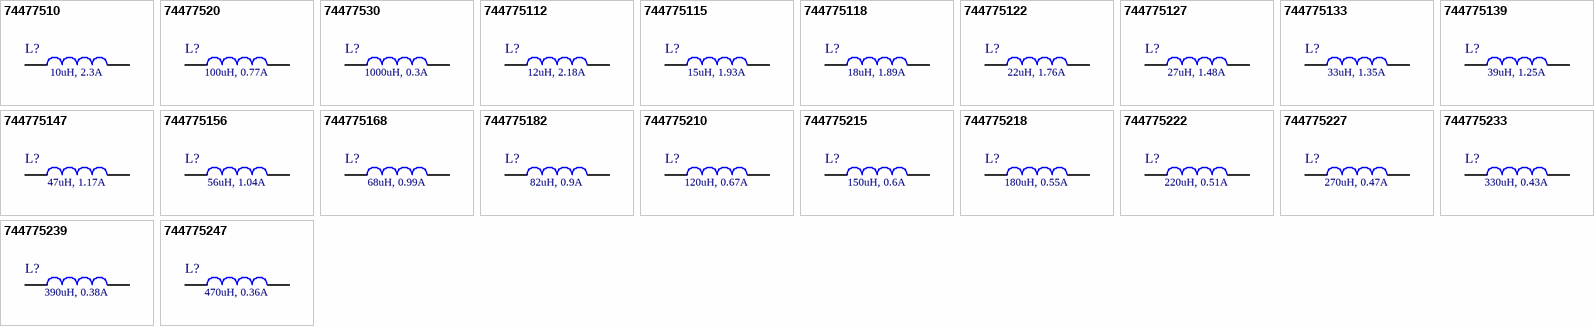
[diagram p3: symbols 74477510 to 744775247]

## 74477510
designator L?, comment 10uH, 2.3A
WE-PD2 SMT Power Inductor, size 7850, 10uH, 2.3A; Manufacturer: Wurth Elektronik; Manufacturer Part Number: 74477510; Self Resonant Frequency: 28MHz; DC Resistance max.: 0.07Ohm; DC Resistance typ.: 0.044Ohm; Saturation Current: 2.95A; ComponentLink1Description: Manufacturer; ComponentLink1URL: http://www.we-online.de; ComponentLink2Description: Datasheet; ComponentLink2URL: https://www.we-online.com/catalog/datasheet/74477510.pdf; Packaging: Tape and Reel; Published Date: April 2020; Rated Current: 2.3A; Operating Temperature: -40 to +125degC; Size: 7850; Inductance: 10uH; Mounting Technology: SMT
footprint WE-PD2_7850
pins: 1, 2

## 74477520
designator L?, comment 100uH, 0.77A
WE-PD2 SMT Power Inductor, size 7850, 100uH, 0.77A; Manufacturer: Wurth Elektronik; Manufacturer Part Number: 74477520; Self Resonant Frequency: 8MHz; DC Resistance max.: 0.43Ohm; DC Resistance typ.: 0.208Ohm; Saturation Current: 0.86A; ComponentLink1Description: Manufacturer; ComponentLink1URL: http://www.we-online.de; ComponentLink2Description: Datasheet; ComponentLink2URL: https://www.we-online.com/catalog/datasheet/74477520.pdf; Packaging: Tape and Reel; Published Date: April 2020; Rated Current: 0.77A; Operating Temperature: -40 to +125degC; Size: 7850; Inductance: 100uH; Mounting Technology: SMT
footprint WE-PD2_7850
pins: 1, 2

## 74477530
designator L?, comment 1000uH, 0.3A
WE-PD2 SMT Power Inductor, size 7850, 1000uH, 0.3A; Manufacturer: Wurth Elektronik; Manufacturer Part Number: 74477530; Self Resonant Frequency: 2.4MHz; DC Resistance max.: 3.3Ohm; DC Resistance typ.: 2.78Ohm; ComponentLink1Description: Manufacturer; ComponentLink1URL: http://www.we-online.de; ComponentLink2Description: Datasheet; ComponentLink2URL: https://www.we-online.com/catalog/datasheet/74477530.pdf; Packaging: Tape and Reel; Published Date: April 2020; Rated Current: 0.3A; Operating Temperature: -40 to +125degC; Size: 7850; Inductance: 1000uH; Mounting Technology: SMT; Saturation Current: 0.3A
footprint WE-PD2_7850
pins: 1, 2

## 744775112
designator L?, comment 12uH, 2.18A
WE-PD2 SMT Power Inductor, size 7850, 12uH, 2.18A; Manufacturer: Wurth Elektronik; Manufacturer Part Number: 744775112; Self Resonant Frequency: 26MHz; DC Resistance max.: 0.08Ohm; DC Resistance typ.: 0.042Ohm; Saturation Current: 2.2A; ComponentLink1Description: Manufacturer; ComponentLink1URL: http://www.we-online.de; ComponentLink2Description: Datasheet; ComponentLink2URL: https://www.we-online.com/catalog/datasheet/744775112.pdf; Packaging: Tape and Reel; Published Date: April 2020; Rated Current: 2.18A; Operating Temperature: -40 to +125degC; Size: 7850; Inductance: 12uH; Mounting Technology: SMT
footprint WE-PD2_7850
pins: 1, 2

## 744775115
designator L?, comment 15uH, 1.93A
WE-PD2 SMT Power Inductor, size 7850, 15uH, 1.93A; Manufacturer: Wurth Elektronik; Manufacturer Part Number: 744775115; Self Resonant Frequency: 20MHz; DC Resistance max.: 0.09Ohm; DC Resistance typ.: 0.044Ohm; Saturation Current: 2.23A; ComponentLink1Description: Manufacturer; ComponentLink1URL: http://www.we-online.de; ComponentLink2Description: Datasheet; ComponentLink2URL: https://www.we-online.com/catalog/datasheet/744775115.pdf; Packaging: Tape and Reel; Published Date: April 2020; Rated Current: 1.93A; Operating Temperature: -40 to +125degC; Size: 7850; Inductance: 15uH; Mounting Technology: SMT
footprint WE-PD2_7850
pins: 1, 2

## 744775118
designator L?, comment 18uH, 1.89A
WE-PD2 SMT Power Inductor, size 7850, 18uH, 1.89A; Manufacturer: Wurth Elektronik; Manufacturer Part Number: 744775118; Self Resonant Frequency: 19MHz; DC Resistance max.: 0.1Ohm; DC Resistance typ.: 0.053Ohm; Saturation Current: 2.14A; ComponentLink1Description: Manufacturer; ComponentLink1URL: http://www.we-online.de; ComponentLink2Description: Datasheet; ComponentLink2URL: https://www.we-online.com/catalog/datasheet/744775118.pdf; Packaging: Tape and Reel; Published Date: April 2020; Rated Current: 1.89A; Operating Temperature: -40 to +125degC; Size: 7850; Inductance: 18uH; Mounting Technology: SMT
footprint WE-PD2_7850
pins: 1, 2

## 744775122
designator L?, comment 22uH, 1.76A
WE-PD2 SMT Power Inductor, size 7850, 22uH, 1.76A; Manufacturer: Wurth Elektronik; Manufacturer Part Number: 744775122; Self Resonant Frequency: 17.5MHz; DC Resistance max.: 0.11Ohm; DC Resistance typ.: 0.065Ohm; Saturation Current: 1.81A; ComponentLink1Description: Manufacturer; ComponentLink1URL: http://www.we-online.de; ComponentLink2Description: Datasheet; ComponentLink2URL: https://www.we-online.com/catalog/datasheet/744775122.pdf; Packaging: Tape and Reel; Published Date: April 2020; Rated Current: 1.76A; Operating Temperature: -40 to +125degC; Size: 7850; Inductance: 22uH; Mounting Technology: SMT
footprint WE-PD2_7850
pins: 1, 2

## 744775127
designator L?, comment 27uH, 1.48A
WE-PD2 SMT Power Inductor, size 7850, 27uH, 1.48A; Manufacturer: Wurth Elektronik; Manufacturer Part Number: 744775127; Self Resonant Frequency: 15.5MHz; DC Resistance max.: 0.12Ohm; DC Resistance typ.: 0.074Ohm; Saturation Current: 1.62A; ComponentLink1Description: Manufacturer; ComponentLink1URL: http://www.we-online.de; ComponentLink2Description: Datasheet; ComponentLink2URL: https://www.we-online.com/catalog/datasheet/744775127.pdf; Packaging: Tape and Reel; Published Date: April 2020; Rated Current: 1.48A; Operating Temperature: -40 to +125degC; Size: 7850; Inductance: 27uH; Mounting Technology: SMT
footprint WE-PD2_7850
pins: 1, 2

## 744775133
designator L?, comment 33uH, 1.35A
WE-PD2 SMT Power Inductor, size 7850, 33uH, 1.35A; Manufacturer: Wurth Elektronik; Manufacturer Part Number: 744775133; Self Resonant Frequency: 14.5MHz; DC Resistance max.: 0.13Ohm; DC Resistance typ.: 0.088Ohm; Saturation Current: 1.47A; ComponentLink1Description: Manufacturer; ComponentLink1URL: http://www.we-online.de; ComponentLink2Description: Datasheet; ComponentLink2URL: https://www.we-online.com/catalog/datasheet/744775133.pdf; Packaging: Tape and Reel; Published Date: April 2020; Rated Current: 1.35A; Operating Temperature: -40 to +125degC; Size: 7850; Inductance: 33uH; Mounting Technology: SMT
footprint WE-PD2_7850
pins: 1, 2

## 744775139
designator L?, comment 39uH, 1.25A
WE-PD2 SMT Power Inductor, size 7850, 39uH, 1.25A; Manufacturer: Wurth Elektronik; Manufacturer Part Number: 744775139; Self Resonant Frequency: 12.5MHz; DC Resistance max.: 0.16Ohm; DC Resistance typ.: 0.116Ohm; Saturation Current: 1.33A; ComponentLink1Description: Manufacturer; ComponentLink1URL: http://www.we-online.de; ComponentLink2Description: Datasheet; ComponentLink2URL: https://www.we-online.com/catalog/datasheet/744775139.pdf; Packaging: Tape and Reel; Published Date: April 2020; Rated Current: 1.25A; Operating Temperature: -40 to +125degC; Size: 7850; Inductance: 39uH; Mounting Technology: SMT
footprint WE-PD2_7850
pins: 1, 2

## 744775147
designator L?, comment 47uH, 1.17A
WE-PD2 SMT Power Inductor, size 7850, 47uH, 1.17A; Manufacturer: Wurth Elektronik; Manufacturer Part Number: 744775147; Self Resonant Frequency: 12MHz; DC Resistance max.: 0.18Ohm; DC Resistance typ.: 0.134Ohm; Saturation Current: 1.24A; ComponentLink1Description: Manufacturer; ComponentLink1URL: http://www.we-online.de; ComponentLink2Description: Datasheet; ComponentLink2URL: https://www.we-online.com/catalog/datasheet/744775147.pdf; Packaging: Tape and Reel; Published Date: April 2020; Rated Current: 1.17A; Operating Temperature: -40 to +125degC; Size: 7850; Inductance: 47uH; Mounting Technology: SMT
footprint WE-PD2_7850
pins: 1, 2

## 744775156
designator L?, comment 56uH, 1.04A
WE-PD2 SMT Power Inductor, size 7850, 56uH, 1.04A; Manufacturer: Wurth Elektronik; Manufacturer Part Number: 744775156; Self Resonant Frequency: 10.5MHz; DC Resistance max.: 0.24Ohm; DC Resistance typ.: 0.189Ohm; Saturation Current: 1.14A; ComponentLink1Description: Manufacturer; ComponentLink1URL: http://www.we-online.de; ComponentLink2Description: Datasheet; ComponentLink2URL: https://www.we-online.com/catalog/datasheet/744775156.pdf; Packaging: Tape and Reel; Published Date: April 2020; Rated Current: 1.04A; Operating Temperature: -40 to +125degC; Size: 7850; Inductance: 56uH; Mounting Technology: SMT
footprint WE-PD2_7850
pins: 1, 2

## 744775168
designator L?, comment 68uH, 0.99A
WE-PD2 SMT Power Inductor, size 7850, 68uH, 0.99A; Manufacturer: Wurth Elektronik; Manufacturer Part Number: 744775168; Self Resonant Frequency: 9.7MHz; DC Resistance max.: 0.28Ohm; DC Resistance typ.: 0.218Ohm; Saturation Current: 1.05A; ComponentLink1Description: Manufacturer; ComponentLink1URL: http://www.we-online.de; ComponentLink2Description: Datasheet; ComponentLink2URL: https://www.we-online.com/catalog/datasheet/744775168.pdf; Packaging: Tape and Reel; Published Date: April 2020; Rated Current: 0.99A; Operating Temperature: -40 to +125degC; Size: 7850; Inductance: 68uH; Mounting Technology: SMT
footprint WE-PD2_7850
pins: 1, 2